# EAGLE library part 503776-2410 (library 503776-2410)
MOLEX - 503776-2410 - CONNECTOR, STACKING, PLUG, 24POS, 2ROW Source: Datasheet <https://componentsearchengine.com/Datasheets/1/503776-2410.pdf>
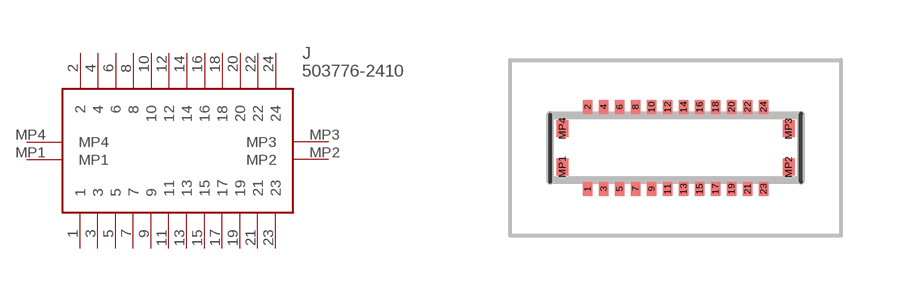
[diagram p0: symbol with the pads of 5037762410; footprint 5037762410]

Designator prefix J

## 503776-2410 (Description: MOLEX - 503776-2410 - CONNECTOR, STACKING, PLUG, 24POS, 2ROW; Height: 0.78mm; Manufacturer_Name: Molex; Manufacturer_Part_Number: 503776-2410; Mouser_Part_Number: 538-503776-2410; Mouser_Price-Stock: https://www.mouser.co.uk/ProductDetail/Molex/503776-2410?qs=73RpG39PUGh8ZO0vVVQvWA%3D%3D)  [5037762410]
1  1
2  2
3  3
4  4
5  5
6  6
7  7
8  8
9  9
10  10
11  11
12  12
13  13
14  14
15  15
16  16
17  17
18  18
19  19
20  20
21  21
22  22
23  23
24  24
MP1  MP1
MP2  MP2
MP3  MP3
MP4  MP4

## Footprint 5037762410 (pad centres in mm)
503776-2410-1
smd 0.24 x 0.35: 1 -2.2,-1.025; 2 -2.2,1.025; 3 -1.8,-1.025; 4 -1.8,1.025; 5 -1.4,-1.025; 6 -1.4,1.025; 7 -1,-1.025; 8 -1,1.025; 9 -0.6,-1.025; 10 -0.6,1.025; 11 -0.2,-1.025; 12 -0.2,1.025; 13 0.2,-1.025; 14 0.2,1.025; 15 0.6,-1.025; 16 0.6,1.025; 17 1,-1.025; 18 1,1.025; 19 1.4,-1.025; 20 1.4,1.025; 21 1.8,-1.025; 22 1.8,1.025; 23 2.2,-1.025; 24 2.2,1.025
smd 0.3 x 0.42: MP1 -2.83,-0.48; MP2 2.83,-0.48; MP3 2.83,0.48; MP4 -2.83,0.48